# Altium footprint library GEIGER_TUBE_2025-04-18.PcbLib: 2 footprints
Each footprint in its own frame and in the unit in brackets; x right, y up, seen from the top. Pads: shape width x height; smd on the part's side, far side on the other; paste and mask are expansions set on the pad; w line width, h text height; cw(c..) or ccw(c..) is an arc to the next point about the centre after c.
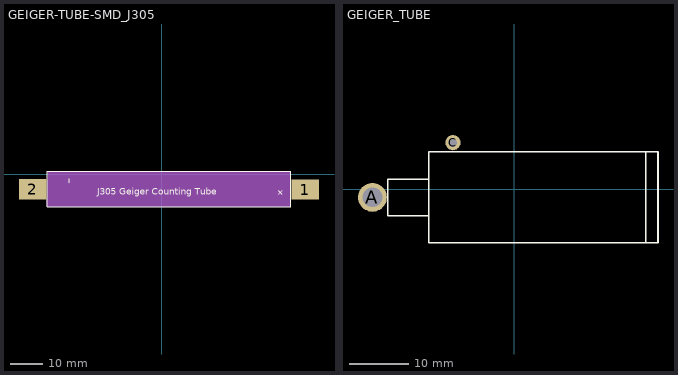
[diagram p0: the footprints below, top view; thin cyan lines are the x and y axes]

## GEIGER-TUBE-SMD_J305 [mil]
pads (2):
  rect 334.5x244 smd paste+4 mask+2: 1(1745,-190) 2(-1565,-185)
Top Overlay:
  lines w10: -1390,-398.3 1570,-398.3 1570,34.7 -1390,34.7 -1390,-398.3
  text "J305 Geiger Counting Tube" at -781.45,-253.45 h80
  text "_" at -1141.33,-112 h80
  text "+" at 1503.11,-230.57 h80
Mechanical 2:
  region: -1383.88,33.2 1565,33.2 1565,-396.8 -1396.52,-396.8

## GEIGER_TUBE [mil]
pads (2):
  round 190 hole 130 paste+0 mask+2: A(-935,-52.5)
  round 100 hole 55.2 paste+0 mask+2: C(-405,307.5)
Top Overlay:
  lines w10: -565,-172.5 -565,67.5 ; -565,-172.5 -565,-352.5 945,-352.5 ; -565,-172.5 -835,-172.5 -835,67.5 -565,67.5 ; -565,67.5 -565,247.5 945,247.5 ; 945,-352.5 865,-352.5 865,247.5 945,247.5 ; 945,-352.5 945,247.5